# Altium schematic symbol library SOC6.SchLib: 1 symbol
Pins are listed as number, name and electrical type; pins without a type are passive.

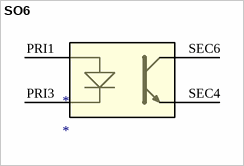
[diagram p0: symbol SO6]

## SO6
designator *
footprint SO6
footprint *SO6
pins: PRI1, PRI3, SEC4, SEC6